# Altium footprint library PCB - LEADLESS - SON - TI SON-6.PCBLIB: 1 footprints
Each footprint in its own frame and in the unit in brackets; x right, y up, seen from the top. Pads: shape width x height; smd on the part's side, far side on the other; paste and mask are expansions set on the pad; w line width, h text height; cw(c..) or ccw(c..) is an arc to the next point about the centre after c.
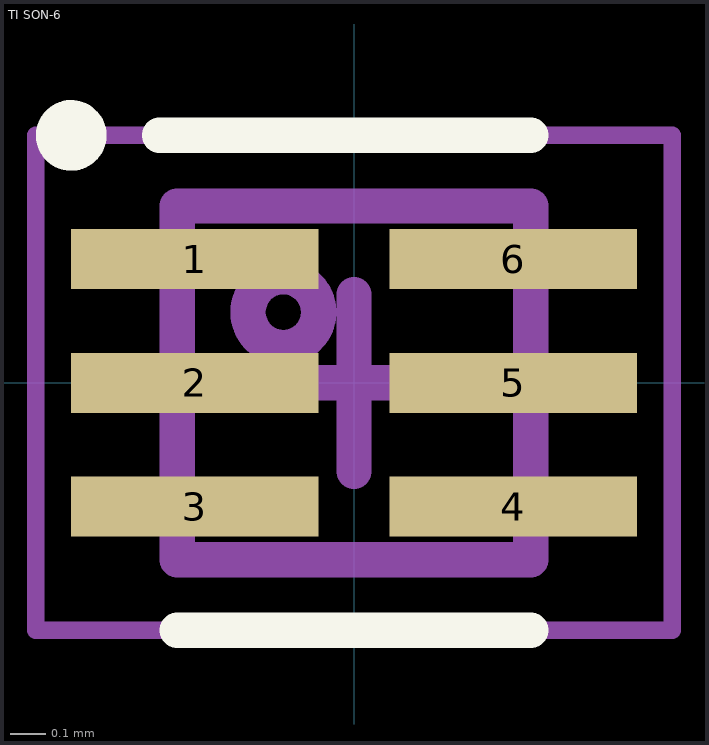
[diagram p0: the footprint, top view; thin cyan lines are the x and y axes]

## TI SON-6 [mm] "SON, 6-Leads, Body 1.00x.00mm, Pitch 0.35mm, IPC Medium Density"
height 0.4
pads (6):
  rect 0.7x0.17 smd mask+0.05: 1(-0.45,0.35) 2(-0.45,0) 3(-0.45,-0.35) 4(0.45,-0.35) 5(0.45,0) 6(0.45,0.35)
Top Overlay:
  circle w0.1: c-0.8,0.7 r0.05
  lines w0.1: -0.55,0.7 0.5,0.7 ; -0.5,-0.7 0.5,-0.7
Mechanical 13:
  circle w0.1: c-0.2,0.2 r0.1
  lines w0.1: -0.5,-0.5 -0.5,0.5 0.5,0.5 0.5,-0.5 -0.5,-0.5
Mechanical 15:
  lines w0.05: -0.9,-0.7 -0.9,0.7 0.9,0.7 0.9,-0.7 -0.9,-0.7
  lines w0.1: -0.25,0 0.25,0 ; 0,-0.25 0,0.25
3D body: height 0.4, standoff 0.01, extent -0.5,-0.5 0.5,0.5